# EAGLE library part 505066-0620 (library 504618-1010)
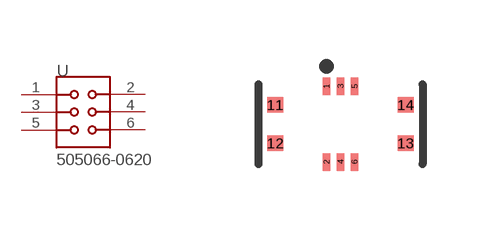
[diagram p1: symbol with the pads of MOLEX_5050660620; footprint MOLEX_5050660620]

Designator prefix -

## 505066-0620  [MOLEX_5050660620]
1  1  pas
2  2  pas
3  3  pas
4  4  pas
5  5  pas
6  6  pas

## Footprint MOLEX_5050660620 (pad centres in mm)
smd 0.18 x 0.44: 1 -0.7,0.95; 2 -0.7,-0.95; 3 -0.35,0.95; 4 -0.35,-0.95; 5 0,0.95; 6 0,-0.95
smd 0.4 x 0.385: 11 -1.98,0.48; 12 -1.98,-0.48; 13 1.28,-0.48; 14 1.28,0.48